# EAGLE library part 74AHCT245BQ,115 (library pimoroni-ics)
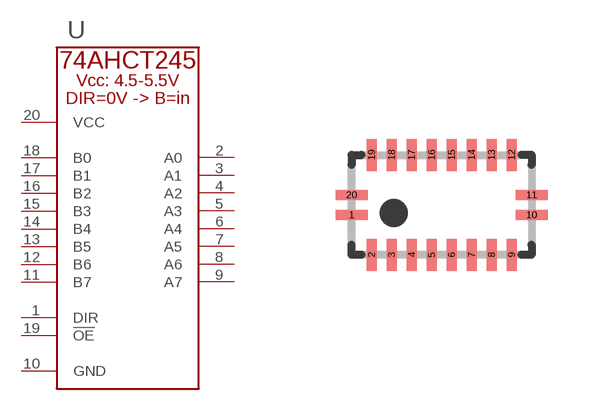
[diagram p153: symbol with the pads of DHVQFN20_SOT764-1; footprint DHVQFN20_SOT764-1]

Designator prefix U

## 74AHCT245BQ,115  [DHVQFN20_SOT764-1]
1  DIR
2  A0
3  A1
4  A2
5  A3
6  A4
7  A5
8  A6
9  A7
10  GND
11  B7
12  B6
13  B5
14  B4
15  B3
16  B2
17  B1
18  B0
19  !OE
20  VCC

## Footprint DHVQFN20_SOT764-1 (pad centres in mm)
smd 0.8 x 0.25: 1 -2.25,-0.25; 10 2.25,-0.25; 11 2.25,0.25; 20 -2.25,0.25
smd 0.25 x 0.8: 2 -1.75,-1.25; 3 -1.25,-1.25; 4 -0.75,-1.25; 5 -0.25,-1.25; 6 0.25,-1.25; 7 0.75,-1.25; 8 1.25,-1.25; 9 1.75,-1.25; 12 1.75,1.25; 13 1.25,1.25; 14 0.75,1.25; 15 0.25,1.25; 16 -0.25,1.25; 17 -0.75,1.25; 18 -1.25,1.25; 19 -1.75,1.25